# Altium footprint library Passive.PcbLib: 91 footprints (part 1 of 6)
Each footprint in its own frame and in the unit in brackets; x right, y up, seen from the top. Pads: shape width x height; smd on the part's side, far side on the other; paste and mask are expansions set on the pad; w line width, h text height; cw(c..) or ccw(c..) is an arc to the next point about the centre after c.
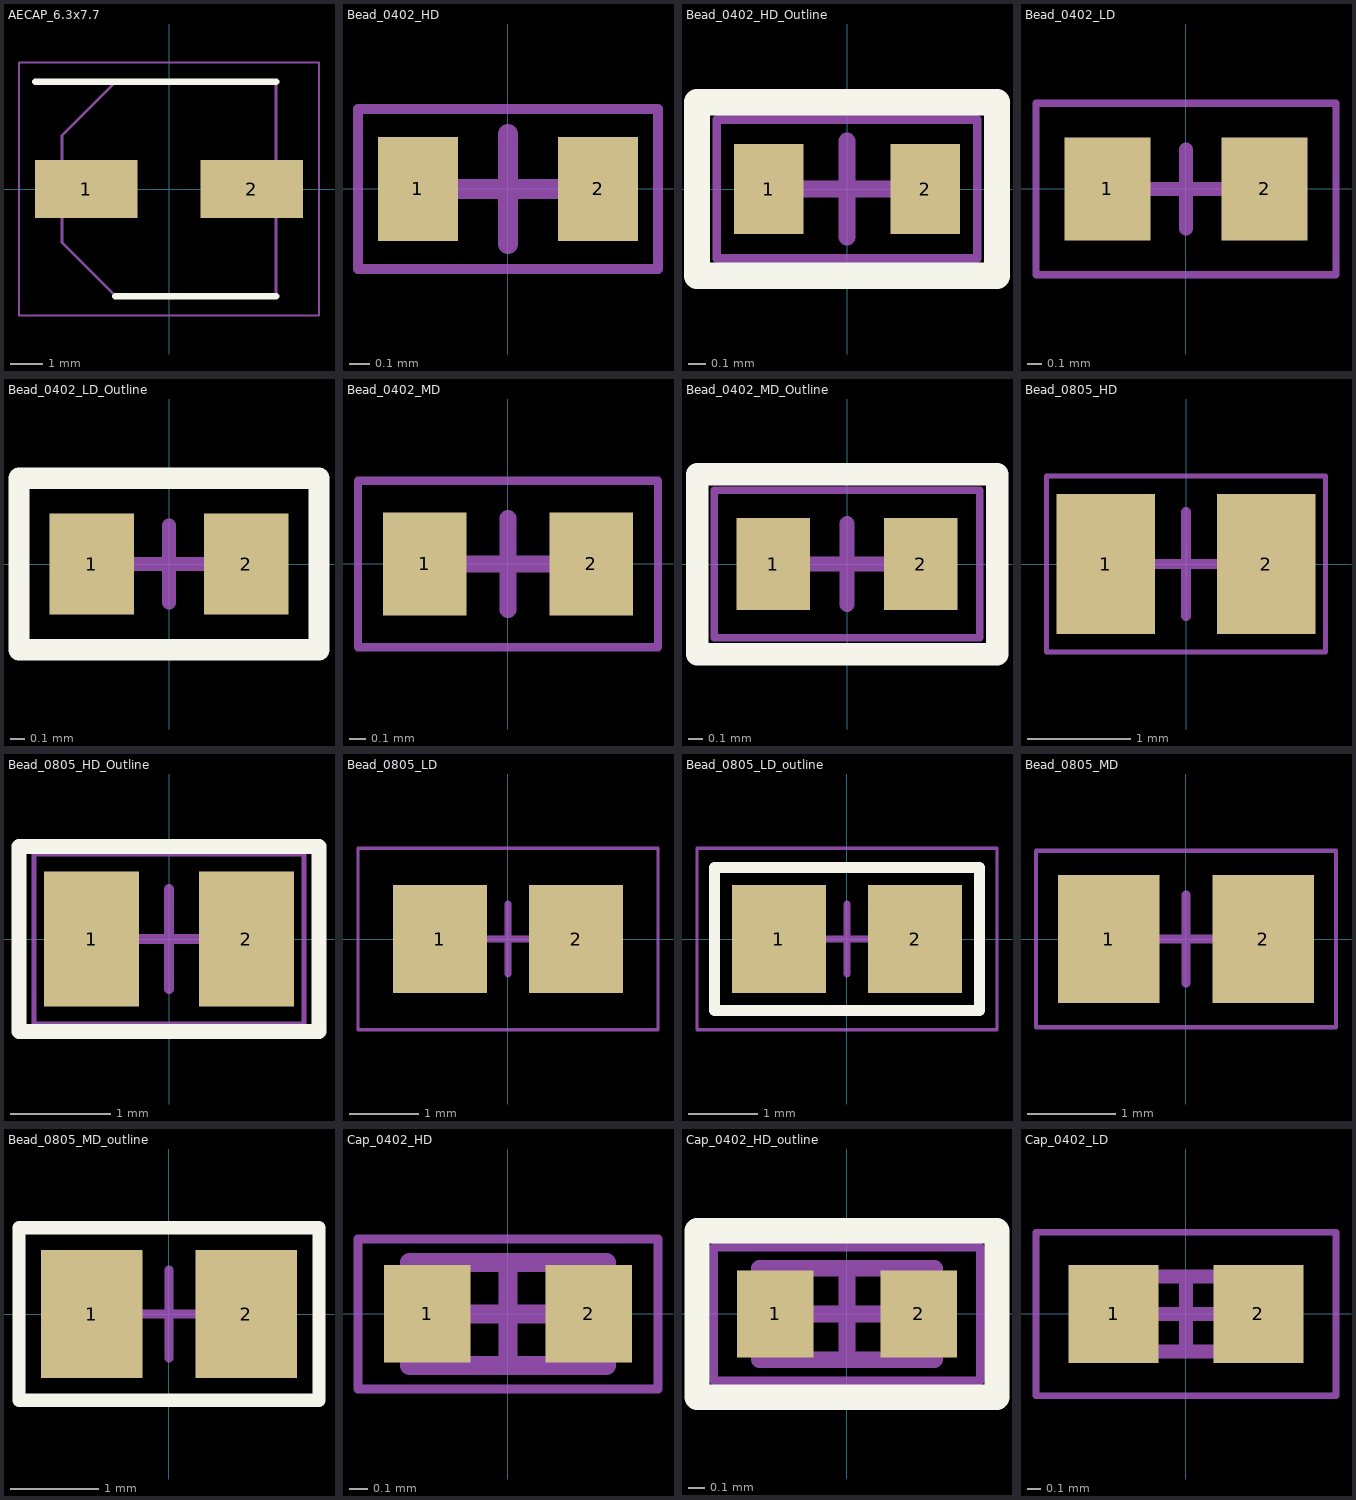
[diagram p0: the footprints below, top view; thin cyan lines are the x and y axes]

## AECAP_6.3x7.7 [mm] "Aluminium Electrolytic Capacitor"
pads (2):
  rect 3.15x1.8 smd: 1(-2.55,0) 2(2.55,0)
Top Overlay:
  lines w0.2: -4.125,3.3 3.3,3.3 ; -1.65,-3.3 3.3,-3.3
Mechanical 13:
  lines w0.1: -3.3,-1.65 -3.3,1.65 -1.65,3.3 3.3,3.3 3.3,-3.3 -1.65,-3.3 -3.3,-1.65
Mechanical 15:
  lines w0.05: -4.625,-3.9 4.625,-3.9 4.625,3.9 -4.625,3.9 -4.625,-3.9
3D body "865080445010.stp": height 7.7, standoff 0, extent -3.4,-3.4 3.4,3.4

## Bead_0402_HD [mm] "Ferrite Bead, 0402, IPC High Density"
height 0.61
pads (2):
  rect 0.4x0.52 smd: 1(-0.45,0) 2(0.45,0)
Mechanical 15:
  lines w0.05: -0.75,-0.4 -0.75,0.4 0.75,0.4 0.75,-0.4 -0.75,-0.4
  lines w0.1: -0.275,0 0.275,0 ; 0,-0.275 0,0.275
3D body "BK1005LL050-T--3DModel-STEP-1.STEP": height 0.5, standoff 0, extent -0.5,-0.275 0.5,0.275

## Bead_0402_HD_Outline [mm] "Ferrite Bead, 0402, IPC High Density"
height 0.61
pads (2):
  rect 0.4x0.52 smd: 1(-0.45,0) 2(0.45,0)
Top Overlay:
  lines w0.152: -0.864,-0.5 0.864,-0.5 0.864,0.5 -0.864,0.5 -0.864,-0.5
Mechanical 15:
  lines w0.05: -0.75,-0.4 -0.75,0.4 0.75,0.4 0.75,-0.4 -0.75,-0.4
  lines w0.1: -0.275,0 0.275,0 ; 0,-0.275 0,0.275
3D body "BK1005LL050-T--3DModel-STEP-1.STEP": height 0.5, standoff 0, extent -0.5,-0.275 0.5,0.275

## Bead_0402_LD [mm] "Ferrite Bead, 0402, IPC Low Density"
height 0.61
pads (2):
  rect 0.6x0.72 smd: 1(-0.55,0) 2(0.55,0)
Mechanical 15:
  lines w0.05: -1.05,-0.6 -1.05,0.6 1.05,0.6 1.05,-0.6 -1.05,-0.6
  lines w0.1: -0.275,0 0.275,0 ; 0,-0.275 0,0.275
3D body "BK1005LL050-T--3DModel-STEP-1.STEP": height 0.5, standoff 0, extent -0.5,-0.279 0.5,0.271

## Bead_0402_LD_Outline [mm] "Ferrite Bead, 0402, IPC Low Density"
height 0.61
pads (2):
  rect 0.6x0.72 smd: 1(-0.55,0) 2(0.55,0)
Top Overlay:
  lines w0.152: -1.067,-0.61 1.067,-0.61 1.067,0.61 -1.067,0.61 -1.067,-0.61
Mechanical 15:
  lines w0.05: -1.05,-0.6 -1.05,0.6 1.05,0.6 1.05,-0.6 -1.05,-0.6
  lines w0.1: -0.275,0 0.275,0 ; 0,-0.275 0,0.275
3D body "BK1005LL050-T--3DModel-STEP-1.STEP": height 0.5, standoff 0, extent -0.5,-0.279 0.5,0.271

## Bead_0402_MD [mm] "Ferrite Bead, 0402, IPC Medium Density"
height 0.61
pads (2):
  rect 0.5x0.62 smd: 1(-0.5,0) 2(0.5,0)
Mechanical 15:
  lines w0.05: -0.9,-0.5 0.9,-0.5 0.9,0.5 -0.9,0.5 -0.9,-0.5
  lines w0.1: -0.275,0 0.275,0 ; 0,-0.275 0,0.275
3D body "BK1005LL050-T--3DModel-STEP-1.STEP": height 0.5, standoff 0, extent -0.5,-0.279 0.5,0.271

## Bead_0402_MD_Outline [mm] "Ferrite Bead, 0402, IPC Medium Density"
height 0.61
pads (2):
  rect 0.5x0.62 smd: 1(-0.5,0) 2(0.5,0)
Top Overlay:
  lines w0.152: -1.016,-0.61 -1.016,0.61 1.016,0.61 1.016,-0.61 -1.016,-0.61
Mechanical 15:
  lines w0.05: -0.9,-0.5 0.9,-0.5 0.9,0.5 -0.9,0.5 -0.9,-0.5
  lines w0.1: -0.275,0 0.275,0 ; 0,-0.275 0,0.275
3D body "BK1005LL050-T--3DModel-STEP-1.STEP": height 0.5, standoff 0, extent -0.5,-0.279 0.5,0.271

## Bead_0805_HD [mm] "Ferrite Bead, 0805, IPC High Density"
height 1.45
pads (2):
  rect 0.95x1.35 smd: 1(-0.775,0) 2(0.775,0)
Mechanical 15:
  lines w0.05: -1.35,-0.85 1.35,-0.85 1.35,0.85 -1.35,0.85 -1.35,-0.85
  lines w0.1: -0.5,0 0.5,0 ; 0,-0.5 0,0.5
3D body "MPZ2012S601AT000.stp": height 1.05, standoff 0, extent -1,-0.625 1,0.625

## Bead_0805_HD_Outline [mm] "Ferrite Bead, 0805, IPC High Density with outline"
height 1.45
pads (2):
  rect 0.95x1.35 smd: 1(-0.775,0) 2(0.775,0)
Top Overlay:
  lines w0.152: -1.5,-0.925 1.5,-0.925 1.5,0.925 -1.5,0.925 -1.5,-0.925
Mechanical 15:
  lines w0.05: -1.35,-0.85 -1.35,0.85 1.35,0.85 1.35,-0.85 -1.35,-0.85
  lines w0.1: -0.5,0 0.5,0 ; 0,-0.5 0,0.5
3D body "MPZ2012S601AT000.stp": height 1.05, standoff 0, extent -0.822,-0.625 1.178,0.625

## Bead_0805_LD [mm] "Ferrite Bead, 0805, IPC Low Density"
height 1.45
pads (2):
  rect 1.35x1.55 smd: 1(-0.975,0) 2(0.975,0)
Mechanical 15:
  lines w0.05: -2.15,-1.3 2.15,-1.3 2.15,1.3 -2.15,1.3 -2.15,-1.3
  lines w0.1: -0.5,0 0.5,0 ; 0,-0.5 0,0.5
3D body "MPZ2012S601AT000.stp": height 1.05, standoff 0, extent -0.822,-0.676 1.178,0.574

## Bead_0805_LD_outline [mm] "Ferrite Bead, 0805, IPC Low Density with outline"
height 1.45
pads (2):
  rect 1.35x1.55 smd: 1(-0.975,0) 2(0.975,0)
Top Overlay:
  lines w0.152: -1.9,-1.025 1.9,-1.025 1.9,1.025 -1.9,1.025 -1.9,-1.025
Mechanical 15:
  lines w0.05: -2.15,-1.3 2.15,-1.3 2.15,1.3 -2.15,1.3 -2.15,-1.3
  lines w0.1: -0.5,0 0.5,0 ; 0,-0.5 0,0.5
3D body "MPZ2012S601AT000.stp": height 1.05, standoff 0, extent -0.797,-0.65 1.203,0.6

## Bead_0805_MD [mm] "Ferrite Bead, 0805, IPC Medium Density"
height 1.45
pads (2):
  rect 1.15x1.45 smd: 1(-0.875,0) 2(0.875,0)
Mechanical 15:
  lines w0.05: -1.7,-1 1.7,-1 1.7,1 -1.7,1 -1.7,-1
  lines w0.1: -0.5,0 0.5,0 ; 0,-0.5 0,0.5
3D body "MPZ2012S601AT000.stp": height 1.05, standoff 0, extent -0.822,-0.625 1.178,0.625

## Bead_0805_MD_outline [mm] "Ferrite Bead, 0805, IPC Medium Density with outline"
height 1.45
pads (2):
  rect 1.15x1.45 smd: 1(-0.875,0) 2(0.875,0)
Top Overlay:
  lines w0.152: -1.7,-0.975 -1.7,0.975 1.7,0.975 1.7,-0.975 -1.7,-0.975
Mechanical 15:
  lines w0.05: -1.7,-1 1.7,-1 1.7,1 -1.7,1 -1.7,-1
  lines w0.1: -0.5,0 0.5,0 ; 0,-0.5 0,0.5
3D body "MPZ2012S601AT000.stp": height 1.05, standoff 0, extent -0.822,-0.625 1.178,0.625

## Cap_0402_HD [mm] "Chip Capacitor, 0402, IPC High Density"
height 0.61
pads (2):
  rect 0.46x0.52 smd: 1(-0.43,0) 2(0.43,0)
Mechanical 13:
  lines w0.1: -0.525,-0.275 -0.525,0.275 0.525,0.275 0.525,-0.275 -0.525,-0.275
Mechanical 15:
  lines w0.05: -0.8,-0.4 -0.8,0.4 0.8,0.4 0.8,-0.4 -0.8,-0.4
  lines w0.1: -0.275,0 0.275,0 ; 0,-0.275 0,0.275
3D body "CAPC1005X06L.step": height 0.61, standoff 0, extent -0.525,-0.275 0.525,0.275

## Cap_0402_HD_outline [mm] "Chip Capacitor, 0402, IPC High Density with outline"
height 0.61
pads (2):
  rect 0.46x0.52 smd: 1(-0.43,0) 2(0.43,0)
Top Overlay:
  lines w0.152: -0.9,-0.5 0.9,-0.5 0.9,0.5 -0.9,0.5 -0.9,-0.5
Mechanical 13:
  lines w0.1: -0.525,-0.275 -0.525,0.275 0.525,0.275 0.525,-0.275 -0.525,-0.275
Mechanical 15:
  lines w0.05: -0.8,-0.4 -0.8,0.4 0.8,0.4 0.8,-0.4 -0.8,-0.4
  lines w0.1: -0.275,0 0.275,0 ; 0,-0.275 0,0.275
3D body "CAPC1005X06L.step": height 0.61, standoff 0, extent -0.525,-0.275 0.525,0.275

## Cap_0402_LD [mm] "Chip Capacitor, 0402, IPC Low Density"
height 0.61
pads (2):
  rect 0.66x0.72 smd: 1(-0.53,0) 2(0.53,0)
Mechanical 13:
  lines w0.1: -0.525,-0.275 -0.525,0.275 0.525,0.275 0.525,-0.275 -0.525,-0.275
Mechanical 15:
  lines w0.05: -1.1,-0.6 -1.1,0.6 1.1,0.6 1.1,-0.6 -1.1,-0.6
  lines w0.1: -0.275,0 0.275,0 ; 0,-0.275 0,0.275
3D body "CAPC1005X06M.step": height 0.61, standoff 0, extent -0.525,-0.275 0.525,0.275